# EAGLE library part MAX4477AUA (library samuel)
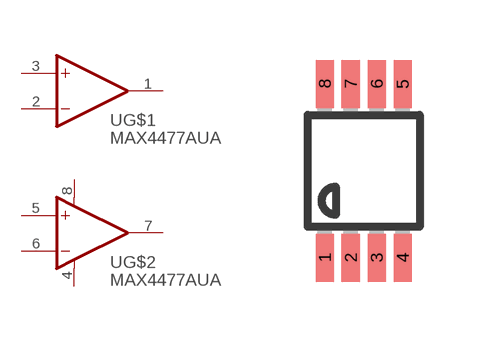
[diagram p4: symbol with the pads of UMAX8; footprint UMAX8]

Designator prefix -; gates G$1=OP G$2=OPUB

## MAX4477AUA  [UMAX8]
1  G$1:OUT  out
2  G$1:-IN  in
3  G$1:+IN  in
4  G$2:V-  pwr
5  G$2:+IN  in
6  G$2:-IN  in
7  G$2:OUT  out
8  G$2:V+  pwr

## Footprint UMAX8 (pad centres in mm)
micro MAX Package
smd 0.45 x 1.2: 1 -0.975,-2.175; 2 -0.325,-2.175; 3 0.325,-2.175; 4 0.975,-2.175; 5 0.975,2.175; 6 0.325,2.175; 7 -0.325,2.175; 8 -0.975,2.175